# Altium footprint library 索腾保密柜ZCM_V1_HJ.PcbLib: 58 footprints (part 2 of 4)
Each footprint in its own frame and in the unit in brackets; x right, y up, seen from the top. Pads: shape width x height; smd on the part's side, far side on the other; paste and mask are expansions set on the pad; w line width, h text height; cw(c..) or ccw(c..) is an arc to the next point about the centre after c.
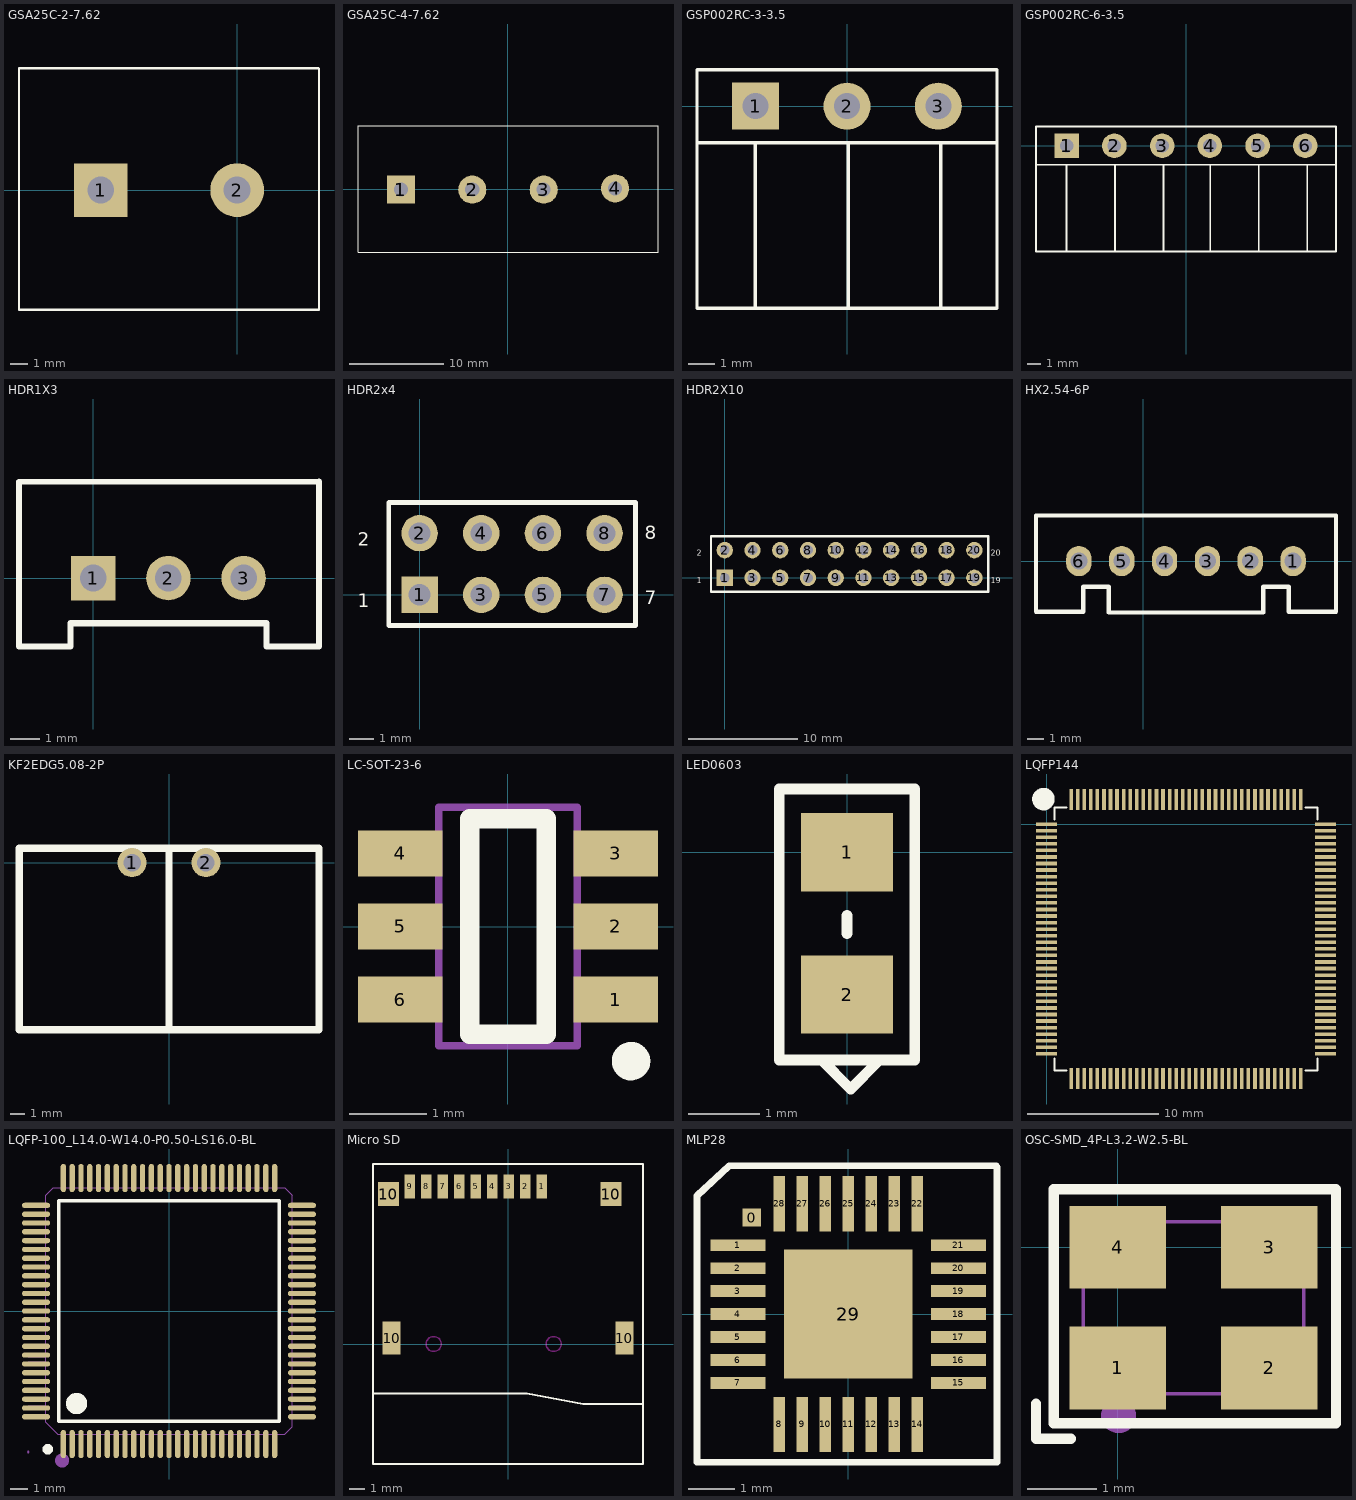
[diagram p1: the footprints below, top view; thin cyan lines are the x and y axes]

## GSA25C-2-7.62 [mm]
height 14.8
pads (2):
  rect 3x3 hole 1.5: 1(-7.62,0)
  round 3 hole 1.5: 2(0,0)
Top Overlay:
  lines w0.127: 4.57,6.771 4.527,6.813 ; 4.527,6.813 -12.19,6.813 -12.19,-6.686 4.572,-6.686 4.572,6.769 4.527,6.813

## GSA25C-4-7.62 [mm]
height 14.8
pads (4):
  rect 3x3 hole 1.5: 1(-11.43,-0.064)
  round 3 hole 1.5: 2(-3.81,-0.064) 3(3.81,-0.064) 4(11.43,0.064)
Top Overlay:
  lines w0.127: -16,-6.75 16,-6.75 16,6.75 -16,6.75 -16,-6.75

## GSP002RC-3-3.5 [mm]
height 7
pads (3):
  rect 1.8x1.8 hole 1: 1(-3.5,0)
  round 1.8 hole 1: 2(0,0) 3(3.5,0)
Top Overlay:
  lines w0.127: -5.75,-1.4 5.75,-1.4 ; -3.513,-7.747 -3.513,-1.4 ; 0.043,-7.747 0.043,-1.4 ; 3.599,-7.75 3.599,-1.4 ; -5.75,-7.75 -5.75,1.4 5.75,1.4 5.75,-7.75 -5.75,-7.75

## GSP002RC-6-3.5 [mm]
height 7
pads (6):
  rect 1.8x1.8 hole 1: 1(-8.75,0)
  round 1.8 hole 1: 2(-5.25,0) 3(-1.75,0) 4(1.75,0) 5(5.25,0) 6(8.75,0)
Top Overlay:
  lines w0.127: -11,-1.4 11,-1.4 ; -8.763,-7.747 -8.763,-1.4 ; -5.207,-7.747 -5.207,-1.4 ; -1.651,-7.75 -1.651,-1.4 ; 1.778,-7.747 1.778,-1.4 ; 5.334,-7.747 5.334,-1.4 ; 8.89,-7.747 8.89,-1.4 ; -11,-7.75 11,-7.75 11,1.4 -11,1.4 -11,-7.75

## HDR1X3 [mm] "Connector; Header; 4 Position"
height 1.5
pads (3):
  rect 1.5x1.5 hole 0.9: 1(0,0)
  round 1.5 hole 0.9: 2(2.54,0) 3(5.08,0)
Top Overlay:
  lines w0.2: -2.5,-2.3 -2.5,3.25 7.62,3.25
  lines w0.203: -2.5,-2.3 -0.762,-2.3 -0.762,-1.524 5.842,-1.524 5.842,-2.3 7.62,-2.3 7.62,3.25

## HDR2x4 [mm] "Connector; Header; 10x2 Position"
height 1.5
pads (8):
  rect 1.5x1.5 hole 0.9: 1(0,0)
  round 1.5 hole 0.9: 2(0,2.54) 3(2.54,0) 4(2.54,2.54) 5(5.08,0) 6(5.08,2.54) 7(7.62,0) 8(7.62,2.54)
Top Overlay:
  lines w0.2: -1.27,-1.27 -1.27,3.81 0.635,3.81 8.89,3.81 8.89,-1.27 0.635,-1.27 -1.27,-1.27
  text "2" at -2.54,2.032 h0.55
  text "1" at -2.54,-0.508 h0.55
  text "7" at 9.271,-0.381 h0.55
  text "8" at 9.271,2.286 h0.55

## HDR2X10 [mm] "Connector; Header; 10x2 Position"
height 1.5
pads (20):
  rect 1.5x1.5 hole 0.9: 1(0,0)
  round 1.5 hole 0.9: 2(0,2.54) 3(2.54,0) 4(2.54,2.54) 5(5.08,0) 6(5.08,2.54) 7(7.62,0) 8(7.62,2.54) 9(10.16,0) 10(10.16,2.54) 11(12.7,0) 12(12.7,2.54) 13(15.24,0) 14(15.24,2.54) 15(17.78,0) 16(17.78,2.54) 17(20.32,0) 18(20.32,2.54) 19(22.86,0) 20(22.86,2.54)
Top Overlay:
  lines w0.2: -1.27,-1.27 -1.27,3.81 0.635,3.81 24.13,3.81 24.13,-1.27 0.635,-1.27 -1.27,-1.27
  text "2" at -2.54,2.032 h0.55
  text "1" at -2.54,-0.508 h0.55
  text "19" at 24.384,-0.508 h0.55
  text "20" at 24.384,2.032 h0.55

## HX2.54-6P [mm]
height 10
pads (6):
  oval 1.5x1.8 hole 1: 1(8.89,0) 2(6.35,0) 3(3.81,0) 4(1.27,0) 5(-1.27,0) 6(-3.81,0)
Top Overlay:
  lines w0.254: -6.35,-3 -3.556,-3 -3.556,-1.524 -2.032,-1.524 -2.032,-3.048 7.112,-3.048 7.112,-1.524 8.636,-1.524 8.636,-3 11.43,-3 11.43,2.7 -6.35,2.7 -6.35,-3

## KF2EDG5.08-2P [mm]
pads (2):
  round 2 hole 1.2: 1(-2.54,0) 2(2.54,0)
Top Overlay:
  lines w0.508: 0,-11.5 0,1 ; 0,1 -10.31,1 -10.287,1 -10.287,-11.5 10.31,-11.5 10.31,1 0,1

## LC-SOT-23-6 [mm]
pads (6):
  rect 1.1x0.6 smd: 1(1.4,-0.95) 2(1.4,0) 3(1.4,0.95) 4(-1.4,0.95) 5(-1.4,0) 6(-1.4,-0.95)
Top Overlay:
  circle w0.25: c1.6,-1.75 r0.125
  lines w0.254: -0.5,-1.4 -0.5,1.4 0.5,1.4 0.5,-1.4 -0.5,-1.4
Mechanical 13:
  lines w0.1: -0.9,-1.55 -0.9,1.55 0.9,1.55 0.9,-1.55 -0.9,-1.55

## LED0603 [mm]
height 1
pads (2):
  rect 1.3x1.1 smd: 1(0,0) 2(0,-2)
Top Overlay:
  lines w0.15: -0.356,-2.921 0.025,-3.302 ; 0,-1.143 0,-0.889 ; 0.051,-3.327 0.432,-2.946 ; -0.95,-2.921 0.95,-2.921 0.95,0.889 -0.95,0.889 -0.95,-2.921
3D body "User Library-LED_0603_R.STEP": height 0.6, standoff 0, extent -0.4,-1.816 0.4,-0.216

## LQFP144 [mm]
height 1.5
pads (144):
  rect 1.6x0.28 smd: 1(0,0) 2(0,-0.5) 3(0,-1) 4(0,-1.5) 5(0,-2) 6(0,-2.5) 7(0,-3) 8(0,-3.5) 9(0,-4) 10(0,-4.5) 11(0,-5) 12(0,-5.5) 13(0,-6) 14(0,-6.5) 15(0,-7) 16(0,-7.5) 17(0,-8) 18(0,-8.5) 19(0,-9) 20(0,-9.5) 21(0,-10) 22(0,-10.5) 23(0,-11) 24(0,-11.5) 25(0,-12) 26(0,-12.5) 27(0,-13) 28(0,-13.5) 29(0,-14) 30(0,-14.5) 31(0,-15) 32(0,-15.5) 33(0,-16) 34(0,-16.5) 35(0,-17) 36(0,-17.5) 73(21.25,-17.5) 74(21.25,-17) 75(21.25,-16.5) 76(21.25,-16) 77(21.25,-15.5) 78(21.25,-15) 79(21.25,-14.5) 80(21.25,-14) 81(21.25,-13.5) 82(21.25,-13) 83(21.25,-12.5) 84(21.25,-12) 85(21.25,-11.5) 86(21.25,-11) 87(21.25,-10.5) 88(21.25,-10) 89(21.25,-9.5) 90(21.25,-9) 91(21.25,-8.5) 92(21.25,-8) 93(21.25,-7.5) 94(21.25,-7) 95(21.25,-6.5) 96(21.25,-6) 97(21.25,-5.5) 98(21.25,-5) 99(21.25,-4.5) 100(21.25,-4) 101(21.25,-3.5) 102(21.25,-3) 103(21.25,-2.5) 104(21.25,-2) 105(21.25,-1.5) 106(21.25,-1) 107(21.25,-0.5) 108(21.25,0)
  rect 0.28x1.6 smd: 37(1.875,-19.375) 38(2.375,-19.375) 39(2.875,-19.375) 40(3.375,-19.375) 41(3.875,-19.375) 42(4.375,-19.375) 43(4.875,-19.375) 44(5.375,-19.375) 45(5.875,-19.375) 46(6.375,-19.375) 47(6.875,-19.375) 48(7.375,-19.375) 49(7.875,-19.375) 50(8.375,-19.375) 51(8.875,-19.375) 52(9.375,-19.375) 53(9.875,-19.375) 54(10.375,-19.375) 55(10.875,-19.375) 56(11.375,-19.375) 57(11.875,-19.375) 58(12.375,-19.375) 59(12.875,-19.375) 60(13.375,-19.375) 61(13.875,-19.375) 62(14.375,-19.375) 63(14.875,-19.375) 64(15.375,-19.375) 65(15.875,-19.375) 66(16.375,-19.375) 67(16.875,-19.375) 68(17.375,-19.375) 69(17.875,-19.375) 70(18.375,-19.375) 71(18.875,-19.375) 72(19.375,-19.375) 109(19.375,1.875) 110(18.875,1.875) 111(18.375,1.875) 112(17.875,1.875) 113(17.375,1.875) 114(16.875,1.875) 115(16.375,1.875) 116(15.875,1.875) 117(15.375,1.875) 118(14.875,1.875) 119(14.375,1.875) 120(13.875,1.875) 121(13.375,1.875) 122(12.875,1.875) 123(12.375,1.875) 124(11.875,1.875) 125(11.375,1.875) 126(10.875,1.875) 127(10.375,1.875) 128(9.875,1.875) 129(9.375,1.875) 130(8.875,1.875) 131(8.375,1.875) 132(7.875,1.875) 133(7.375,1.875) 134(6.875,1.875) 135(6.375,1.875) 136(5.875,1.875) 137(5.375,1.875) 138(4.875,1.875) 139(4.375,1.875) 140(3.875,1.875) 141(3.375,1.875) 142(2.875,1.875) 143(2.375,1.875) 144(1.875,1.875)
Top Overlay:
  circle w1: c-0.232,1.905 r0.359
  lines w0.15: 0.625,-17.85 0.625,-18.75 1.525,-18.75 ; 0.625,0.35 0.625,1.25 1.525,1.25 ; 19.725,-18.75 20.625,-18.75 20.625,-17.85 ; 19.725,1.25 20.625,1.25 20.625,0.35

## LQFP-100_L14.0-W14.0-P0.50-LS16.0-BL [mm]
pads (100):
  oval 0.3x1.6 smd paste-100 mask+0.051: 1(-6,-7.55) 2(-5.5,-7.55) 3(-5,-7.55) 4(-4.5,-7.55) 5(-4,-7.55) 6(-3.5,-7.55) 7(-3,-7.55) 8(-2.5,-7.55) 9(-2,-7.55) 10(-1.5,-7.55) 11(-1,-7.55) 12(-0.5,-7.55) 13(0,-7.55) 14(0.5,-7.55) 15(1,-7.55) 16(1.5,-7.55) 17(2,-7.55) 18(2.5,-7.55) 19(3,-7.55) 20(3.5,-7.55) 21(4,-7.55) 22(4.5,-7.55) 23(5,-7.55) 24(5.5,-7.55) 25(6,-7.55) 51(6,7.55) 52(5.5,7.55) 53(5,7.55) 54(4.5,7.55) 55(4,7.55) 56(3.5,7.55) 57(3,7.55) 58(2.5,7.55) 59(2,7.55) 60(1.5,7.55) 61(1,7.55) 62(0.5,7.55) 63(0,7.55) 64(-0.5,7.55) 65(-1,7.55) 66(-1.5,7.55) 67(-2,7.55) 68(-2.5,7.55) 69(-3,7.55) 70(-3.5,7.55) 71(-4,7.55) 72(-4.5,7.55) 73(-5,7.55) 74(-5.5,7.55) 75(-6,7.55)
  oval 1.6x0.3 smd paste-100 mask+0.051: 26(7.55,-6) 27(7.55,-5.5) 28(7.55,-5) 29(7.55,-4.5) 30(7.55,-4) 31(7.55,-3.5) 32(7.55,-3) 33(7.55,-2.5) 34(7.55,-2) 35(7.55,-1.5) 36(7.55,-1) 37(7.55,-0.5) 38(7.55,0) 39(7.55,0.5) 40(7.55,1) 41(7.55,1.5) 42(7.55,2) 43(7.55,2.5) 44(7.55,3) 45(7.55,3.5) 46(7.55,4) 47(7.55,4.5) 48(7.55,5) 49(7.55,5.5) 50(7.55,6) 76(-7.55,6) 77(-7.55,5.5) 78(-7.55,5) 79(-7.55,4.5) 80(-7.55,4) 81(-7.55,3.5) 82(-7.55,3) 83(-7.55,2.5) 84(-7.55,2) 85(-7.55,1.5) 86(-7.55,1) 87(-7.55,0.5) 88(-7.55,0) 89(-7.55,-0.5) 90(-7.55,-1) 91(-7.55,-1.5) 92(-7.55,-2) 93(-7.55,-2.5) 94(-7.55,-3) 95(-7.55,-3.5) 96(-7.55,-4) 97(-7.55,-4.5) 98(-7.55,-5) 99(-7.55,-5.5) 100(-7.55,-6)
Top Overlay:
  lines w0.2: -6.25,-6.25 6.25,-6.25 6.25,6.25 -6.25,6.25 -6.25,-6.25
  lines w0.3: -6.883,-7.696 ccw(c-6.882,-7.846) -6.882,-7.996 ccw(c-6.882,-7.846) -6.881,-7.696
  lines w0.6: -5.25,-4.95 ccw(c-5.248,-5.25) -5.248,-5.55 ccw(c-5.248,-5.25) -5.245,-4.95
Top Paste:
  drawing of 100 lines, arcs and shapes, not listed
Mechanical 6:
  circle w0.4: c-6.071,-8.484 r0.2
Mechanical 15:
  drawing of 209 lines, arcs and shapes, not listed

## Micro SD [mm]
height 2
pads (13):
  rect 0.7x1.6 smd: 1(2.25,10.5) 2(1.15,10.5) 3(0.05,10.5) 4(-1.05,10.5) 5(-2.15,10.5) 6(-3.25,10.5) 7(-4.35,10.5) 8(-5.45,10.5) 9(-6.55,10.5)
  rect 1.4x1.6 smd: 10(-7.979,10) 10(6.85,10)
  rect 1.2x2.2 smd: 10(-7.75,0.4) 10(7.75,0.4)
Top Overlay:
  lines w0.127: -9,-3.3 1.27,-3.3 5,-4 9,-4 ; -9,-8 9,-8 9,12 -9,12 -9,-8
Keep-Out Layer:
  circle w0.1: c-4.95,0 r0.5
  circle w0.1: c3.05,0 r0.5

## MLP28 [mm]
height 0.5
pads (30):
  rect 0.4x0.4 smd: 0(-2.1,2.1)
  rect 1.2x0.254 smd: 1(-2.4,1.5) 2(-2.4,1) 3(-2.4,0.5) 4(-2.4,0) 5(-2.4,-0.5) 6(-2.4,-1) 7(-2.4,-1.5) 15(2.4,-1.5) 16(2.4,-1) 17(2.4,-0.5) 18(2.4,0) 19(2.4,0.5) 20(2.4,1) 21(2.4,1.5)
  rect 0.254x1.2 smd: 8(-1.5,-2.4) 9(-1,-2.4) 10(-0.5,-2.4) 11(0,-2.4) 12(0.5,-2.4) 13(1,-2.4) 14(1.5,-2.4) 22(1.5,2.4) 23(1,2.4) 24(0.5,2.4) 25(0,2.4) 26(-0.5,2.4) 27(-1,2.4) 28(-1.5,2.4)
  rect 2.8x2.8 smd: 29(0,0)
Top Overlay:
  lines w0.15: 3.213,-3.224 -3.289,-3.224 -3.289,2.576 -2.587,3.227 3.213,3.227 3.239,3.202 3.239,-3.224

## OSC-SMD_4P-L3.2-W2.5-BL [mm]
pads (4):
  rect 1.4x1.2 smd: 1(0,-1.75) 2(2.2,-1.75) 3(2.2,0) 4(0,0)
Top Overlay:
  lines w0.152: -1.186,-2.272 -1.186,-2.78 -0.678,-2.78 ; -0.929,-2.554 3.171,-2.554 3.171,0.846 -0.929,0.846 -0.929,-2.554
Mechanical 6:
  circle w0.254: c0.012,-2.442 r0.127
  region: -0.368,-0.055 0.267,-0.055 0.267,0.072 -0.368,0.072
  region: -0.106,0.331 -0.106,-0.304 0.021,-0.304 0.021,0.331
  region: -0.638,-1.411 -0.602,-1.411 -0.602,-1.483 -0.638,-1.483
  region: -0.602,-1.411 -0.566,-1.411 -0.566,-1.483 -0.602,-1.483
  region: -0.566,-1.375 -0.53,-1.375 -0.53,-1.483 -0.566,-1.483
  region: -0.53,-1.339 -0.494,-1.339 -0.494,-1.447 -0.53,-1.447
  region: -0.494,-1.339 -0.458,-1.339 -0.458,-1.879 -0.494,-1.879
  region: -0.458,-1.303 -0.422,-1.303 -0.422,-1.879 -0.458,-1.879
  region: -0.422,-1.303 -0.386,-1.303 -0.386,-1.879 -0.422,-1.879
  region: -0.386,-1.303 -0.35,-1.303 -0.35,-1.879 -0.386,-1.879
Mechanical 15:
  region: 1.7,-1.324 2.6,-1.324 2.6,-2.124 1.7,-2.124
  region: -0.4,-1.324 0.5,-1.324 0.5,-2.124 -0.4,-2.124
  region: -0.4,0.374 0.5,0.374 0.5,-0.426 -0.4,-0.426
  region: 1.7,0.374 2.6,0.374 2.6,-0.426 1.7,-0.426
  region: -0.44,-2.125 -0.441,-2.101 -0.476,-2.067 -0.524,-2.067 -0.559,-2.101 -0.56,-2.125 -0.559,-2.149 -0.524,-2.182 -0.476,-2.182 -0.441,-2.149
  lines w0.051: -0.5,-2.125 2.7,-2.125 2.7,0.375 -0.5,0.375 -0.5,-2.125